# Altium schematic symbol library conn-8x3_0.SchLib: 1 symbol
Pins are listed as number, name and electrical type; pins without a type are passive.

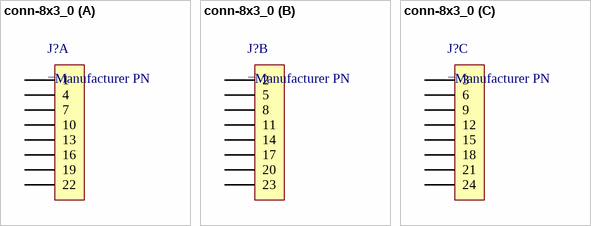
[diagram p0: symbol conn-8x3_0]

## conn-8x3_0
designator J?
part A pins: 1, 4, 7, 10, 13, 16, 19, 22
part B pins: 2, 5, 8, 11, 14, 17, 20, 23
part C pins: 3, 6, 9, 12, 15, 18, 21, 24